# Altium footprint library RJ-45_TE_Conn_1840855-3_1Gig_2Port_pcb.PcbLib: 1 footprints
Each footprint in its own frame and in the unit in brackets; x right, y up, seen from the top. Pads: shape width x height; smd on the part's side, far side on the other; paste and mask are expansions set on the pad; w line width, h text height; cw(c..) or ccw(c..) is an arc to the next point about the centre after c.
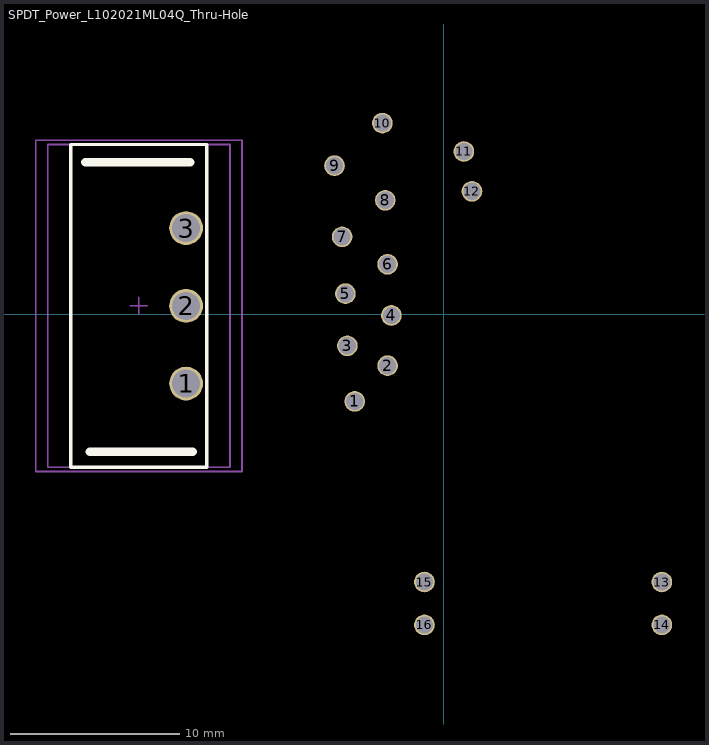
[diagram p0: the footprint, top view; thin cyan lines are the x and y axes]

## SPDT_Power_L102021ML04Q_Thru-Hole [mm]
height 12.4
pads (19):
  round 2 hole 1.65: 1(-15.24,-4.092) 2(-15.24,0.508) 3(-15.24,5.108)
  round 1.22 hole 1.02: 1(-5.261,-5.149) 2(-3.315,-3.034) 3(-5.699,-1.857) 4(-3.091,-0.062) 5(-5.811,1.229) 6(-3.315,2.967) 7(-6.007,4.594) 8(-3.455,6.754) 9(-6.456,8.801) 10(-3.623,11.325) 11(1.2,9.642) 12(1.677,7.286) 13(12.917,-15.837) 14(12.917,-18.377) 15(-1.133,-15.837) 16(-1.133,-18.377)
Top Overlay:
  lines w0.2: -22.059,-9.042 -14.009,-9.042 -14.009,10.058 -22.059,10.058 -22.059,-9.042
  lines w0.5: -21.209,9.017 -14.986,9.017 ; -20.955,-8.128 -14.859,-8.128
Mechanical 13:
  lines w0.1: -23.429,-9.042 -12.639,-9.042 -12.639,10.058 -23.429,10.058 -23.429,-9.042
Mechanical 15:
  lines w0.1: -18.534,0.508 -17.534,0.508 ; -18.034,0.008 -18.034,1.008 ; -24.134,-9.292 -11.934,-9.292 -11.934,10.308 -24.134,10.308 -24.134,-9.292
3D body: height 12.4, standoff 0, extent -23.429,-9.042 -12.639,10.058